# Altium schematic symbol library LED Indication - Discrete.SchLib: 3 symbols
Pins are listed as number, name and electrical type; pins without a type are passive.

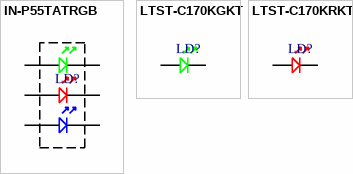
[diagram p0: symbols IN-P55TATRGB to LTST-C170KRKT]

## IN-P55TATRGB
designator LD?  (value not drawn)
LED RGB CLEAR 6PLCC SMD; Supplier 1: Digi-Key; Supplier 2: Mouser; Supplier Part Number 1: 1830-1098-1-ND; Supplier Part Number 2: 743-IN-P55TATRGB
footprint INOLUX_6-PLCC
pins: 1 B-, 2 R-, 3 G-, 4 G+, 5 R+, 6 B+

## LTST-C170KGKT
designator LD?  (value not drawn)
LED GREEN CLEAR SMD; Supplier 1: Digi-Key; Supplier 2: Mouser; Supplier Part Number 1: 160-1414-1-ND; Supplier Part Number 2: 859-LTST-C170KGKT
footprint LITEON_0805-GREEN
pins: 1 R+, 2 R-

## LTST-C170KRKT
designator LD?  (value not drawn)
LED RED CLEAR SMD; Supplier 1: Digi-Key; Supplier 2: Mouser; Supplier Part Number 1: 160-1415-6-ND; Supplier Part Number 2: 859-LTST-C170KRKT
footprint LITEON_0805-RED
pins: 1 R+, 2 R-